# Altium footprint library BOURNS Shielded High Power Inductors.PcbLib: 4 footprints
Each footprint in its own frame and in the unit in brackets; x right, y up, seen from the top. Pads: shape width x height; smd on the part's side, far side on the other; paste and mask are expansions set on the pad; w line width, h text height; cw(c..) or ccw(c..) is an arc to the next point about the centre after c.
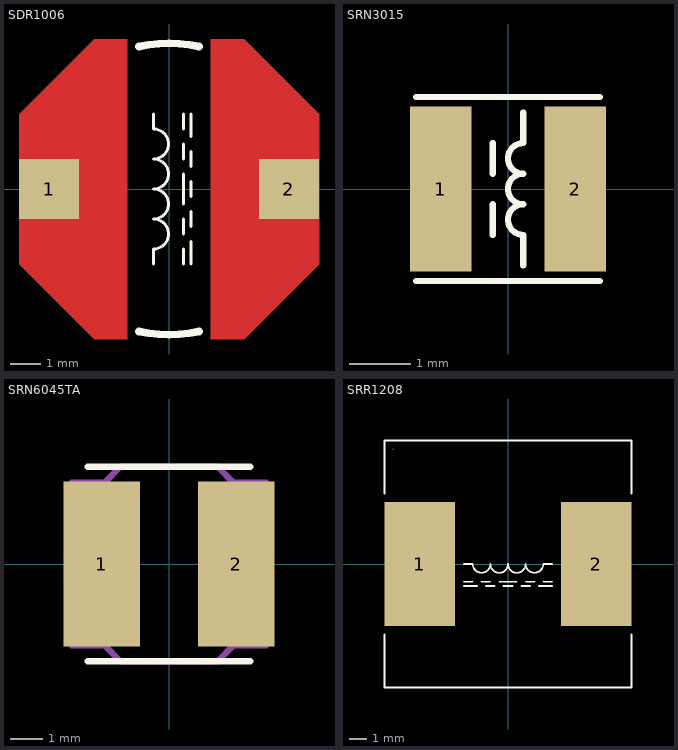
[diagram p0: the footprints below, top view; thin cyan lines are the x and y axes]

## SDR1006 [mm] "SDR1006 Series - Non-Shielded High Power Inductors (Bourns)"
height 5.8
pads (2):
  rect 2x2 smd: 1(-4,0) 2(4,0)
Top Layer:
  region: -1.4,5 -2.5,5 -5,2.5 -5,-2.5 -2.5,-5 -1.4,-5
  region: 1.4,-5 2.5,-5 5,-2.5 5,2.5 2.5,5 1.4,5
Top Overlay:
  lines w0.1: -0.515,-2.5 -0.515,-2 ccw(c-0.515,-1.5) -0.515,-1 ccw(c-0.515,-0.5) -0.515,0 ccw(c-0.515,0.5) -0.515,1 ccw(c-0.515,1.5) -0.515,2 -0.515,2.5 ; 0.485,-2.5 0.485,-2 ; 0.485,-1.5 0.485,-1 ; 0.485,-0.5 0.485,0.5 ; 0.485,1 0.485,1.5 ; 0.485,2 0.485,2.5 ; 0.735,-2.5 0.735,-1.75 ; 0.735,-1.25 0.735,-0.75 ; 0.735,-0.25 0.735,0.25 ; 0.735,0.75 0.735,1.25 ; 0.735,1.75 0.735,2.5
  lines w0.254: -1,-4.75 ccw(c0,0) 1,-4.75 ; -1,4.75 cw(c0,0) 1,4.75
3D body "User Library-Bourns_SDR1006_SMD_WW_Inductor.SLDPRT": height 5.93, standoff -0.03, extent -4.888,-4.9 4.888,4.9

## SRN3015 [mm] "SRN3015 Series - Shielded High Power Inductors (Bourns)"
height 1.5
pads (2):
  rect 1x2.7 smd: 1(-1.1,0) 2(1.1,0)
Top Overlay:
  lines w0.1: -1.5,-1.5 1.5,-1.5 ; -1.5,1.5 1.5,1.5 ; -0.25,-0.75 -0.25,-0.25 ; -0.25,0.25 -0.25,0.75 ; 0.25,-1.25 0.25,-0.75 cw(c0.25,-0.5) 0.25,-0.25 cw(c0.25,0) 0.25,0.25 cw(c0.25,0.5) 0.25,0.75 0.25,1.25

## SRN6045TA [mm] "SRN6045TA Series - Semi-Shielded High Power Inductors (Bourns)"
height 4.5
pads (2):
  rect 2.35x5.1 smd: 1(-2.075,0) 2(2.075,0)
Top Overlay:
  lines w0.2: -2.5,-3 2.5,-3 ; -2.5,3 2.5,3
Mechanical 13:
  lines w0.2: -3,-2.5 -3,2.5 -2,2.5 -1.5,3 1.5,3 2,2.5 3,2.5 3,-2.5 2,-2.5 1.5,-3 -1.5,-3 -2,-2.5 -3,-2.5

## SRR1208 [mm] "SRR1208 Series - Shielded High Power Inductors (Bourns)"
height 8.5
pads (2):
  rect 4x7 smd: 1(-5,0) 2(5,0)
Top Overlay:
  lines w0.1: -7,-4 -7,-7 -0.5,-7 7,-7 7,-4 ; -7,4 -7,7 -0.5,7 7,7 7,4 ; -2.5,-1.25 -1.75,-1.25 ; -2.5,-1 -2,-1 ; -2.5,0 -2,0 ccw(c-1.5,0) -1,0 ccw(c-0.5,0) 0,0 ccw(c0.5,0) 1,0 ccw(c1.5,0) 2,0 2.5,0 ; -1.5,-1 -1,-1 ; -1.25,-1.25 -0.75,-1.25 ; -0.5,-1 0.5,-1 ; -0.25,-1.25 0.25,-1.25 ; 0.75,-1.25 1.25,-1.25 ; 1,-1 1.5,-1 ; 1.75,-1.25 2.5,-1.25 ; 2,-1 2.5,-1
Mechanical 1:
  lines w0.1: -6.5,6.5 -6.5,6.5
3D body "User Library-SRR1208.SLDPRT": height 8.5, standoff 0.01, extent -6.35,-6.343 6.35,6.357